# EAGLE library part USB-MICRO-5P (library Connector)
5+4P-SMD-0.65-B:320010000;5+2P-SMD-0.65-AB:340032001
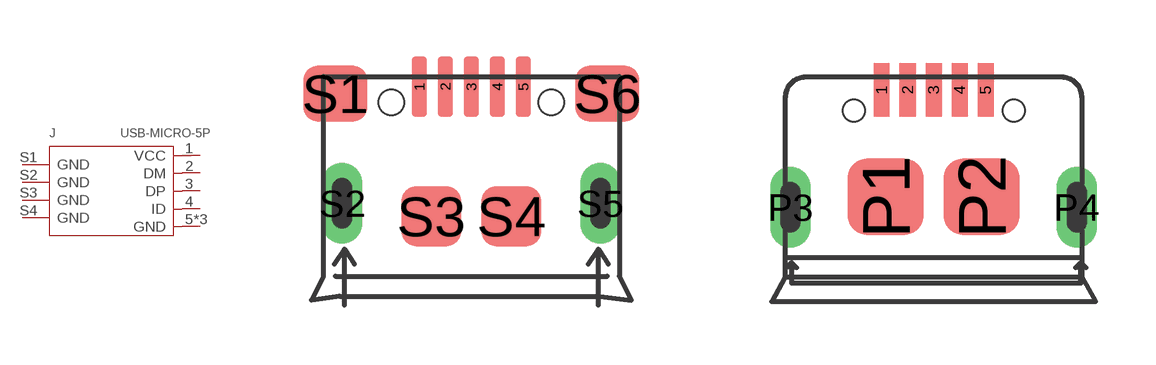
[diagram p27: symbol with the pads of 5+4P-SMD-0.65-B; footprints 5+4P-SMD-0.65-B, 5+2P-SMD-0.65-AB]

Designator prefix J

## USB-MICRO-5P'5+4P'  [5+4P-SMD-0.65-B]
1  VCC
2  DM
3  DP
4  ID
5  GND
S1  GND
S2  GND
S3  GND
S4  GND
S5  GND
S6  GND

## USB-MICRO-5P'ALX-MC-5F-036'  [5+2P-SMD-0.65-AB]
1  VCC
2  DM
3  DP
4  ID
5  GND
P1  GND
P2  GND
P3  GND
P4  GND

## Footprint 5+4P-SMD-0.65-B (pad centres in mm)
smd 0.381 x 1.524: 1 -1.3,-0.25; 2 -0.65,-0.25; 3 0,-0.25; 4 0.65,-0.25; 5 1.3,-0.25
smd 1.6 x 1.397: S1 -3.4,-0.427; S6 3.4,-0.427
drill 0.508 pad 1.016 long: S2 -3.226,-3.175; S5 3.226,-3.175
smd 1.5 x 1.5: S3 -1,-3.5; S4 1,-3.5
hole 0.635 at -2,-0.65
hole 0.635 at 2,-0.65

## Footprint 5+2P-SMD-0.65-AB (pad centres in mm)
smd 0.4 x 1.35: 1 -1.3,2.675; 2 -0.65,2.675; 3 0,2.675; 4 0.65,2.675; 5 1.3,2.675
smd 1.9 x 1.9: P1 -1.2,0; P2 1.2,0
drill 0.508 pad 1.016 long: P3 -3.575,-0.265; P4 3.575,-0.265
hole 0.55 at -2,2.15
hole 0.55 at 2,2.15